# EAGLE library part STUSB4500QTR (library STUSB4500QTR)
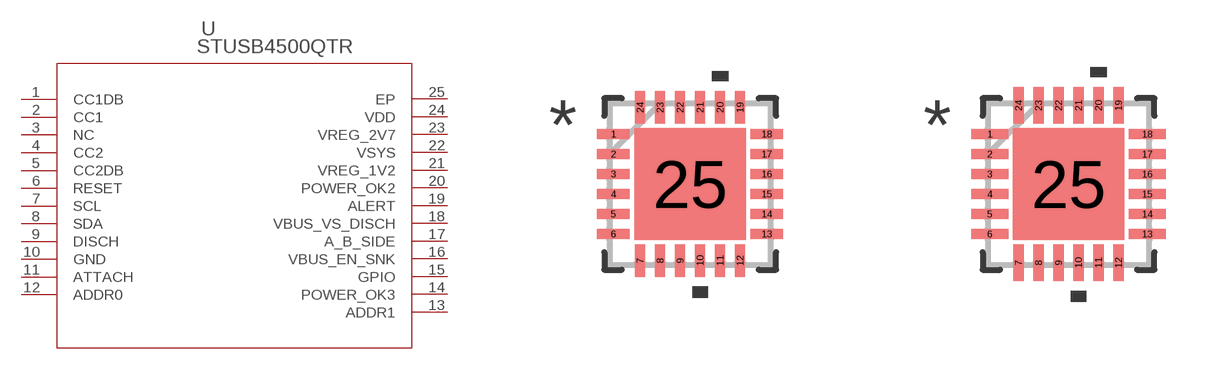
[diagram p0: symbol with the pads of QFN24EP_4X4_STM; footprints QFN24EP_4X4_STM, QFN24EP_4X4_STM-M]

Designator prefix U

## STUSB4500QTRQFN24EP_4X4_STM (Copyright: Copyright (C) 2022 Ultra Librarian. All rights reserved.; Manufacturer_Part_Number: STUSB4500QTR; Mfr_Name: STMicroelectronics)  [QFN24EP_4X4_STM]
1  CC1DB  pas
2  CC1  pas
3  NC  nc
4  CC2  pas
5  CC2DB  pas
6  RESET  in
7  SCL  in
8  SDA
9  DISCH
10  GND  pas
11  ATTACH  out
12  ADDR0  in
13  ADDR1  in
14  POWER_OK3  out
15  GPIO  out
16  VBUS_EN_SNK  in
17  A_B_SIDE  out
18  VBUS_VS_DISCH  in
19  ALERT  out
20  POWER_OK2  out
21  VREG_1V2  pwr
22  VSYS  pwr
23  VREG_2V7  pwr
24  VDD  pwr
25  EP  pas

## STUSB4500QTRQFN24EP_4X4_STM-M (Copyright: Copyright (C) 2022 Ultra Librarian. All rights reserved.; Manufacturer_Part_Number: STUSB4500QTR; Mfr_Name: STMicroelectronics)  [QFN24EP_4X4_STM-M]
Pads as for QFN24EP_4X4_STM

## STUSB4500QTRQFN24EP_4X4_STM-L (Copyright: Copyright (C) 2022 Ultra Librarian. All rights reserved.; Manufacturer_Part_Number: STUSB4500QTR; Mfr_Name: STMicroelectronics)  [QFN24EP_4X4_STM-L]
Pads as for QFN24EP_4X4_STM

## Footprint QFN24EP_4X4_STM (pad centres in mm)
smd 0.813 x 0.254: 1 -1.918,1.25; 2 -1.918,0.75; 3 -1.918,0.25; 4 -1.918,-0.25; 5 -1.918,-0.75; 6 -1.918,-1.25; 13 1.918,-1.25; 14 1.918,-0.75; 15 1.918,-0.25; 16 1.918,0.25; 17 1.918,0.75; 18 1.918,1.25
smd 0.254 x 0.813: 7 -1.25,-1.918; 8 -0.75,-1.918; 9 -0.25,-1.918; 10 0.25,-1.918; 11 0.75,-1.918; 12 1.25,-1.918; 19 1.25,1.918; 20 0.75,1.918; 21 0.25,1.918; 22 -0.25,1.918; 23 -0.75,1.918; 24 -1.25,1.918
smd 2.794 x 2.794: 25 0,0

## Footprint QFN24EP_4X4_STM-M (pad centres in mm)
smd 0.914 x 0.254: 1 -1.968,1.25; 2 -1.968,0.75; 3 -1.968,0.25; 4 -1.968,-0.25; 5 -1.968,-0.75; 6 -1.968,-1.25; 13 1.968,-1.25; 14 1.968,-0.75; 15 1.968,-0.25; 16 1.968,0.25; 17 1.968,0.75; 18 1.968,1.25
smd 0.254 x 0.914: 7 -1.25,-1.968; 8 -0.75,-1.968; 9 -0.25,-1.968; 10 0.25,-1.968; 11 0.75,-1.968; 12 1.25,-1.968; 19 1.25,1.968; 20 0.75,1.968; 21 0.25,1.968; 22 -0.25,1.968; 23 -0.75,1.968; 24 -1.25,1.968
smd 2.794 x 2.794: 25 0,0

## Footprint QFN24EP_4X4_STM-L (pad centres in mm)
smd 0.711 x 0.254: 1 -1.867,1.25; 2 -1.867,0.75; 3 -1.867,0.25; 4 -1.867,-0.25; 5 -1.867,-0.75; 6 -1.867,-1.25; 13 1.867,-1.25; 14 1.867,-0.75; 15 1.867,-0.25; 16 1.867,0.25; 17 1.867,0.75; 18 1.867,1.25
smd 0.254 x 0.711: 7 -1.25,-1.867; 8 -0.75,-1.867; 9 -0.25,-1.867; 10 0.25,-1.867; 11 0.75,-1.867; 12 1.25,-1.867; 19 1.25,1.867; 20 0.75,1.867; 21 0.25,1.867; 22 -0.25,1.867; 23 -0.75,1.867; 24 -1.25,1.867
smd 2.794 x 2.794: 25 0,0